# Altium schematic symbol library MBT3904DW1T1G.SchLib: 1 symbol
Pins are listed as number, name and electrical type; pins without a type are passive.

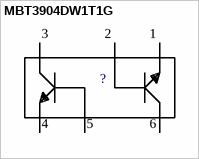
[diagram p0: symbol MBT3904DW1T1G]

## MBT3904DW1T1G
designator ?  (value not drawn)
/ MBT Series 40 V 200 mA SMT NPN Silicon Dual General Purpose Transistor - SOT-363 /; MF: ON Semiconductor; MP: MBT3904DW1T1G; Availability: Unavailable; Package: SOT-363 ON Semiconductor; SnapEDA_Link: https://www.snapeda.com/parts/MBT3904DW1T1G/ON%20Semiconductor/view-part/?ref=snap; Price: None; Value: *
footprint *SOT236
pins: 1 (io), 2 (io), 3 (io), 4 (io), 5 (io), 6 (io)